# EAGLE library part WE-FB_LT3751_EFD20_750032051 (library Wurth_Elektronik_Passive_rev15d)
WE-FB 3751 Flyback Transformer for LT3751 Characteristics Isolation voltage: 1 kVAC Operating temperature: –40 ºC to +125 ºC (incl. self-heating) Especially designed for LT3751 Applications Transformer for capacitor charger or high voltage outputs <http://katalog.we-online.de/media/images/eisos/UtFB_3751_pf2.jpg> Details see: http://katalog.we-online.de/en/pbs/WE-FB_3751? Updated by Dan Xu 2014-07-07 2014 (C) Wurth Elektronik
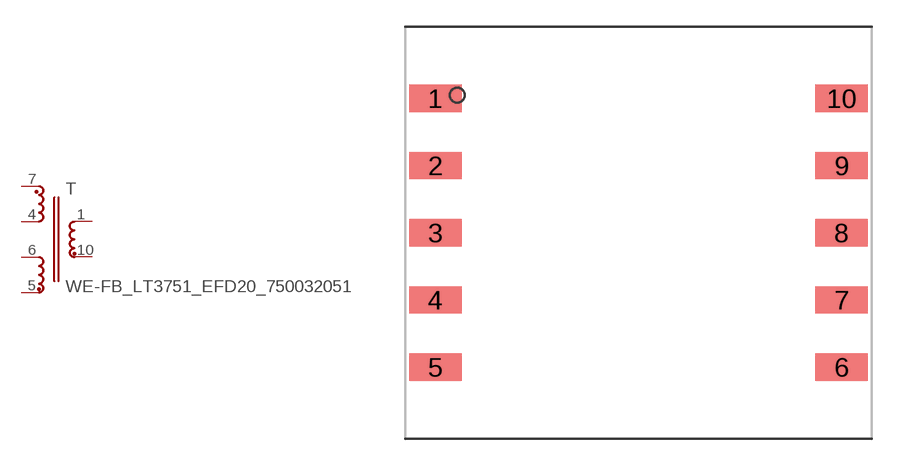
[diagram p7: symbol with the pads of WE-FB_EFD20_10PIN; footprint WE-FB_EFD20_10PIN]

Designator prefix T

## WE-FB_LT3751_EFD20_750032051  [WE-FB_EFD20_10PIN]
1  2  pas
4  6  pas
5  4  pas
6  5  pas
7  1  pas
10  3  pas

## Footprint WE-FB_EFD20_10PIN (pad centres in mm)
smd 2.92 x 1.52: 1 -11.33,7.5; 2 -11.33,3.75; 3 -11.33,0; 4 -11.33,-3.75; 5 -11.33,-7.5; 6 11.33,-7.5; 7 11.33,-3.75; 8 11.33,0; 9 11.33,3.75; 10 11.33,7.5